# Altium footprint library PassiveComponents.PcbLib: 24 footprints (part 1 of 2)
Each footprint in its own frame and in the unit in brackets; x right, y up, seen from the top. Pads: shape width x height; smd on the part's side, far side on the other; paste and mask are expansions set on the pad; w line width, h text height; cw(c..) or ccw(c..) is an arc to the next point about the centre after c.
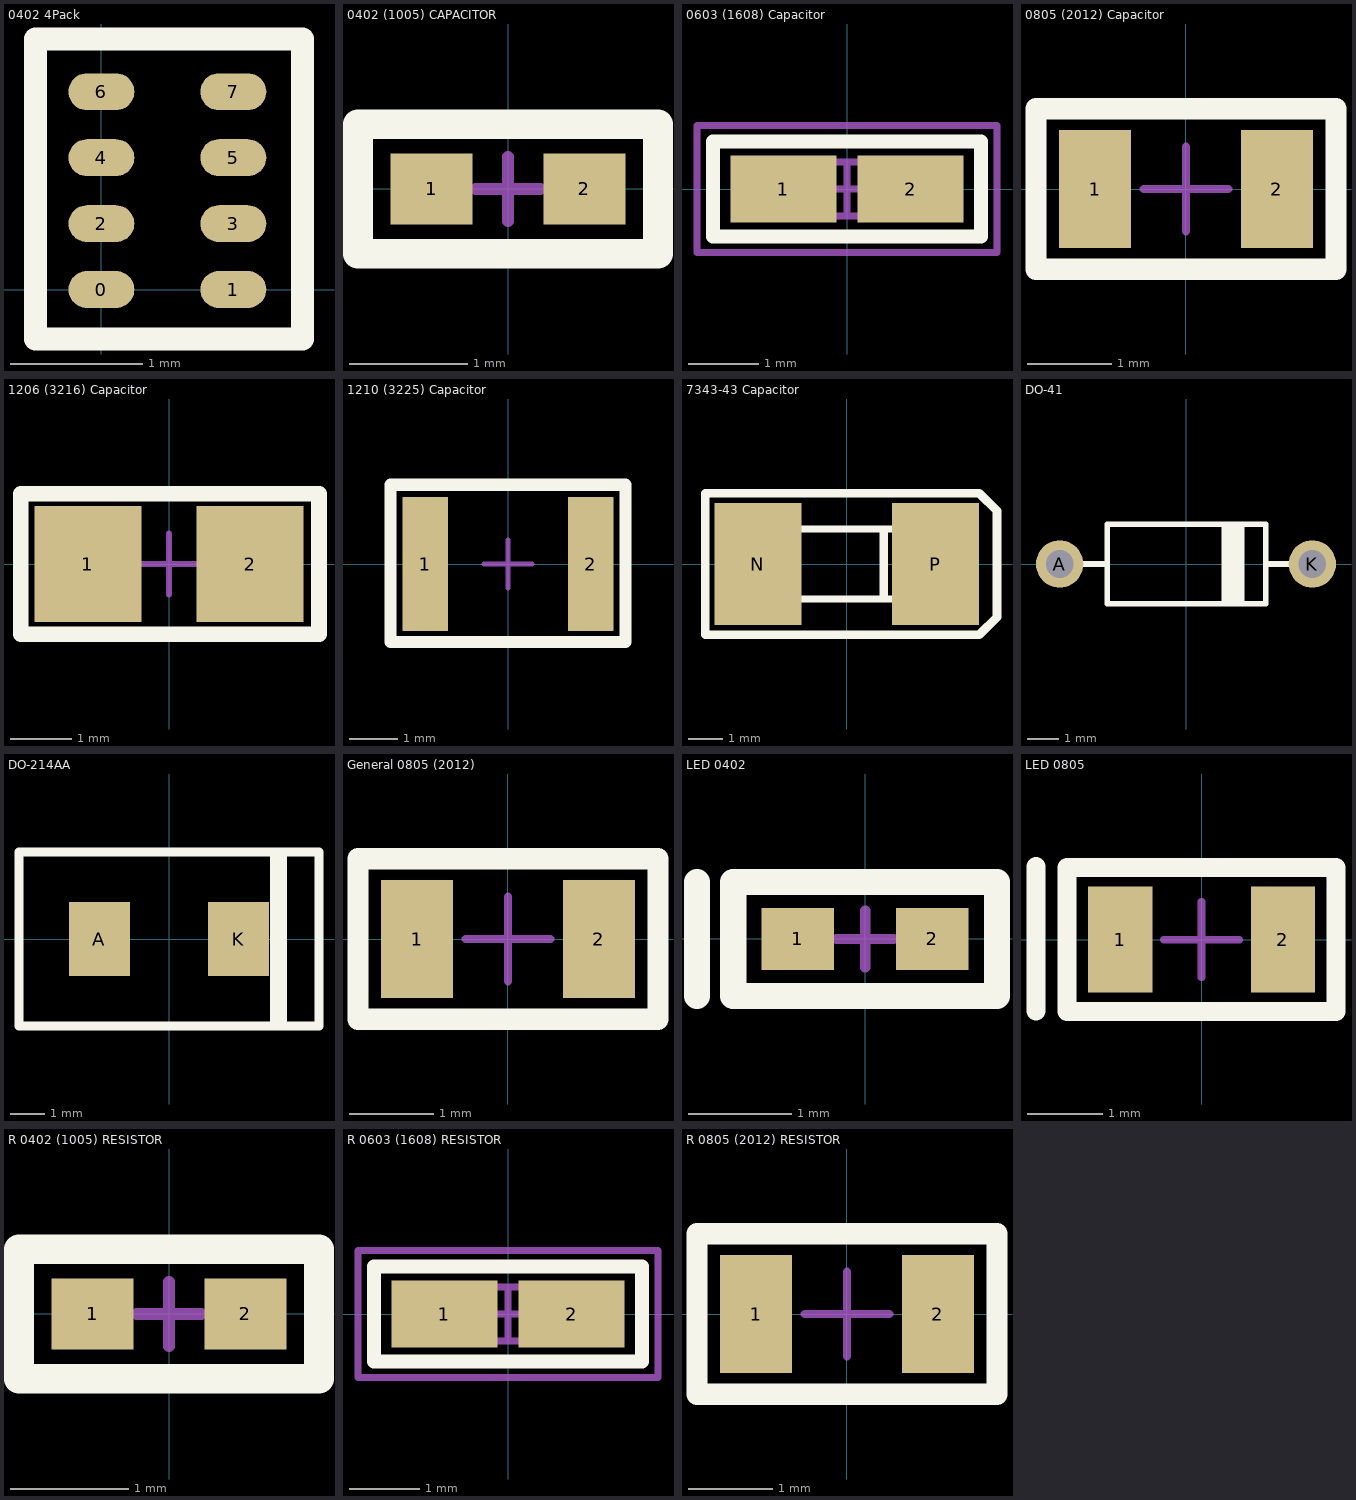
[diagram p0: the footprints below, top view; thin cyan lines are the x and y axes]

## 0402 4Pack [mm]
pads (8):
  oval 0.5x0.28 smd: 0(0,0) 1(1,0) 2(0,0.5) 3(1,0.5) 4(0,1) 5(1,1) 6(0,1.5) 7(1,1.5)
Top Overlay:
  lines w0.178: -0.5,-0.375 1.525,-0.375 1.525,1.9 -0.5,1.9 -0.5,-0.375
3D body: height 0.35, standoff 0, extent -0.15,-0.374 1.125,1.899
3D body: height 0.36, standoff 0, extent 0.225,-0.425 0.775,1.95

## 0402 (1005) CAPACITOR [mm] "0402 (1005) Capacitor"
height 0.5
pads (2):
  rect 0.7x0.6 smd: 1(-0.65,0) 2(0.65,0)
Top Overlay:
  lines w0.254: -1.275,-0.55 -1.275,0.55 1.275,0.55 1.275,-0.55 -1.275,-0.55
Mechanical 15:
  lines w0.1: -0.275,0 0.275,0 ; 0,-0.275 0,0.275 ; -1.275,-0.55 -1.275,0.55 1.275,0.55 1.275,-0.55 -1.275,-0.55
3D body: height 0.51, standoff 0, extent 0.4,-0.288 0.6,0.288
3D body: height 0.51, standoff 0, extent -0.6,-0.288 -0.4,0.288
3D body: height 0.5, standoff 0, extent -0.575,-0.275 0.575,0.275

## 0603 (1608) Capacitor [mm] "0603 (1608) Capacitor"
pads (2):
  rect 1.5x0.95 smd: 1(-0.9,0) 2(0.9,0)
Top Overlay:
  lines w0.2: -1.9,-0.675 1.9,-0.675 1.9,0.675 -1.9,0.675 -1.9,-0.675
Mechanical 13:
  lines w0.1: -0.76,-0.385 0.76,-0.385 0.76,0.385 -0.76,0.385 -0.76,-0.385
Mechanical 15:
  lines w0.1: -0.385,0 0.385,0 ; 0,-0.385 0,0.385 ; -2.125,-0.9 2.125,-0.9 2.125,0.9 -2.125,0.9 -2.125,-0.9
3D body: height 0.51, standoff 0, extent -0.76,-0.385 0.76,0.385

## 0805 (2012) Capacitor [mm] "0805 (2012) Capacitor"
height 0.6
pads (2):
  rect 0.85x1.4 smd: 1(-1.075,0) 2(1.075,0)
Top Overlay:
  lines w0.254: -1.775,-0.95 1.775,-0.95 1.775,0.95 -1.775,0.95 -1.775,-0.95
Mechanical 15:
  lines w0.1: -0.5,0 0.5,0 ; 0,-0.5 0,0.5 ; -1.775,-0.95 1.775,-0.95 1.775,0.95 -1.775,0.95 -1.775,-0.95
3D body: height 0.85, standoff 0, extent -1.188,-0.65 -0.813,0.65
3D body: height 0.85, standoff 0, extent -1.1,-0.635 1.1,0.635
3D body: height 0.85, standoff 0, extent 0.813,-0.65 1.188,0.65

## 1206 (3216) Capacitor [mm] "1206 (3216) Capacitor"
height 1.25
pads (2):
  rect 1.75x1.9 smd: 1(-1.325,0) 2(1.325,0)
Top Overlay:
  lines w0.254: -2.425,-1.15 2.45,-1.15 2.45,1.15 -2.425,1.15 -2.425,-1.125
Mechanical 15:
  lines w0.1: -0.5,0 0.5,0 ; 0,-0.5 0,0.5 ; -2.45,-1.15 2.45,-1.15 2.45,1.15 -2.45,1.15 -2.45,-1.15
3D body: height 1.25, standoff 0, extent -1.7,-0.9 1.7,0.9
3D body: height 1.26, standoff 0, extent -1.725,-0.913 -0.825,0.913
3D body: height 1.26, standoff 0, extent 0.825,-0.913 1.725,0.913

## 1210 (3225) Capacitor [mm] "1210 (3225) Capacitor"
height 1.8
pads (2):
  rect 0.95x2.8 smd: 1(-1.725,0) 2(1.725,0)
Top Overlay:
  lines w0.254: -2.45,-1.625 -2.45,1.65 2.45,1.65 2.45,-1.625 -2.45,-1.625
Mechanical 15:
  lines w0.1: -0.5,0 0.5,0 ; 0,-0.5 0,0.5 ; -2.45,-1.65 2.45,-1.65 2.45,1.65 -2.45,1.65 -2.45,-1.65
3D body: height 1.81, standoff 0, extent 1.075,-1.425 1.825,1.425
3D body: height 1.81, standoff 0, extent -1.825,-1.425 -1.075,1.425
3D body: height 1.8, standoff 0, extent -1.8,-1.4 1.8,1.4

## 7343-43 Capacitor [mm]
pads (2):
  rect 2.5x3.5 smd: N(-2.55,0) P(2.55,0)
Top Overlay:
  lines w0.2: -3.05,-1 -3.05,0 -3.05,1 2.717,1 3.05,0.667 3.05,-0.667 2.717,-1 -3.05,-1
  lines w0.254: 1.067,-0.914 1.067,0.914 ; -4.064,-2.032 -4.064,2.032 3.81,2.032 4.318,1.524 4.318,-1.524 3.81,-2.032 -4.064,-2.032
3D body: height 2.8, standoff 0, extent -4.065,-2.033 4.319,2.033

## CAPM3216X18N [mm]
height 0.51

## DO-41 [mil]
pads (2):
  round 60 hole 35: A(-160.43,0) K(159.57,0)
Top Overlay:
  rectangle: 44.29,-48.23 73.82,50.2
  lines w7: -155.51,0 -101.38,0 ; 62.01,-50.2 64.96,-50.2 ; 101.38,0 160.43,0 ; -100.39,-50.2 -100.39,50.2 100.39,50.2 100.39,-50.2 -100.39,-50.2
3D body: height 99.61, standoff 0, extent -100.39,-51.18 99.61,48.62
3D body: height 100.6, standoff -1, extent 44.8,-52.61 74.8,49.19

## DO-214AA [mil]
pads (2):
  rect 70x85 smd: A(-80,0) K(80,0)
Top Overlay:
  lines w10: -172.5,-100 -172.5,0 -172.5,100 172.5,100 172.5,-100 -172.5,-100
  lines w20: 125.98,-93.5 125.98,94.49
3D body: height 116.14, standoff 7.87, extent 133.86,-101.38 168.31,98.43
3D body: height 116.14, standoff 7.87, extent 116.14,-101.38 133.86,98.43
3D body: height 116.14, standoff 7.87, extent -170.28,-101.38 116.14,98.43

## General 0805 (2012) [mm] "0805 (2012)"
height 0.6
pads (2):
  rect 0.85x1.4 smd: 1(-1.075,0) 2(1.075,0)
Top Overlay:
  lines w0.254: -1.775,-0.95 -1.775,0.95 1.775,0.95 1.775,-0.95 -1.775,-0.95
Mechanical 15:
  lines w0.1: -0.5,0 0.5,0 ; 0,-0.5 0,0.5 ; -1.775,-0.95 -1.775,0.95 1.775,0.95 1.775,-0.95 -1.775,-0.95
3D body: height 0.85, standoff 0, extent 0.813,-0.65 1.188,0.65
3D body: height 0.85, standoff 0, extent -1.1,-0.635 1.1,0.635
3D body: height 0.85, standoff 0, extent -1.188,-0.65 -0.813,0.65

## LED 0402 [mm]
pads (2):
  rect 0.7x0.6 smd: 1(-0.65,0) 2(0.65,0)
Top Overlay:
  lines w0.254: -1.625,-0.55 -1.625,0.55 ; -1.275,-0.55 -1.275,0.55 1.275,0.55 1.275,-0.55 -1.275,-0.55
Mechanical 15:
  lines w0.1: -0.275,0 0.275,0 ; 0,-0.275 0,0.275 ; -1.275,-0.55 -1.275,0.55 1.275,0.55 1.275,-0.55 -1.275,-0.55
3D body: height 0.51, standoff 0, extent 0.4,-0.288 0.6,0.288
3D body: height 0.51, standoff 0, extent -0.6,-0.288 -0.4,0.288
3D body: height 0.5, standoff 0, extent -0.575,-0.275 0.575,0.275
3D body: height 0.53, standoff 0, extent -0.254,-0.127 0.254,0.127

## LED 0805 [mm]
pads (2):
  rect 0.85x1.4 smd: 1(-1.075,0) 2(1.075,0)
Top Overlay:
  lines w0.254: -2.184,-0.94 -2.184,0.965 ; -1.775,-0.95 1.775,-0.95 1.775,0.95 -1.775,0.95 -1.775,-0.95
Mechanical 15:
  lines w0.1: -0.5,0 0.5,0 ; 0,-0.5 0,0.5 ; -1.775,-0.95 1.775,-0.95 1.775,0.95 -1.775,0.95 -1.775,-0.95
3D body: height 0.85, standoff 0, extent -1.188,-0.65 -0.813,0.65
3D body: height 0.85, standoff 0, extent -1.1,-0.635 1.1,0.635
3D body: height 0.85, standoff 0, extent 0.813,-0.65 1.188,0.65
3D body: height 0.87, standoff 0, extent -0.508,-0.254 0.508,0.254

## R 0402 (1005) RESISTOR [mm] "0402 (1005) Resistor"
height 0.5
pads (2):
  rect 0.7x0.6 smd: 1(-0.65,0) 2(0.65,0)
Top Overlay:
  lines w0.254: -1.275,-0.55 -1.275,0.55 1.275,0.55 1.275,-0.55 -1.275,-0.55
Mechanical 15:
  lines w0.1: -0.275,0 0.275,0 ; 0,-0.275 0,0.275 ; -1.275,-0.55 -1.275,0.55 1.275,0.55 1.275,-0.55 -1.275,-0.55
3D body: height 0.51, standoff 0, extent 0.4,-0.288 0.6,0.288
3D body: height 0.51, standoff 0, extent -0.6,-0.288 -0.4,0.288
3D body: height 0.5, standoff 0, extent -0.575,-0.275 0.575,0.275

## R 0603 (1608) RESISTOR [mm] "0603 (1608) Resistor"
pads (2):
  rect 1.5x0.95 smd: 1(-0.9,0) 2(0.9,0)
Top Overlay:
  lines w0.2: -1.9,-0.675 -1.9,0.675 1.9,0.675 1.9,-0.675 -1.9,-0.675
Mechanical 13:
  lines w0.1: -0.76,-0.385 -0.76,0.385 0.76,0.385 0.76,-0.385 -0.76,-0.385
Mechanical 15:
  lines w0.1: -0.385,0 0.385,0 ; 0,-0.385 0,0.385 ; -2.125,-0.9 -2.125,0.9 2.125,0.9 2.125,-0.9 -2.125,-0.9
3D body: height 0.51, standoff 0, extent -0.76,-0.385 0.76,0.385

## R 0805 (2012) RESISTOR [mm] "0805 (2012) Resistor"
height 0.6
pads (2):
  rect 0.85x1.4 smd: 1(-1.075,0) 2(1.075,0)
Top Overlay:
  lines w0.254: -1.775,-0.95 1.775,-0.95 1.775,0.95 -1.775,0.95 -1.775,-0.95
Mechanical 15:
  lines w0.1: -0.5,0 0.5,0 ; 0,-0.5 0,0.5 ; -1.775,-0.95 1.775,-0.95 1.775,0.95 -1.775,0.95 -1.775,-0.95
3D body: height 0.85, standoff 0, extent -1.188,-0.65 -0.813,0.65
3D body: height 0.85, standoff 0, extent -1.1,-0.635 1.1,0.635
3D body: height 0.85, standoff 0, extent 0.813,-0.65 1.188,0.65